# EAGLE library part TC9400/01/02 (library microchip2)
The TC9400/9401/9402 are low-cost Voltage-to-Frequency (V/F) converters, utilizing low-power CMOS technology. The converters accept a variable analog input signal and generate an output pulse train, whose frequency is linearly proportional to the input voltage. The devices can also be used as highly accurate Frequency-to-Voltage (F/V) converters, accepting virtually any input frequency waveform and providing a linearly proportional voltage output. A complete V/F or F/V system only requires the addition of two capacitors, three resistors, and reference voltage.
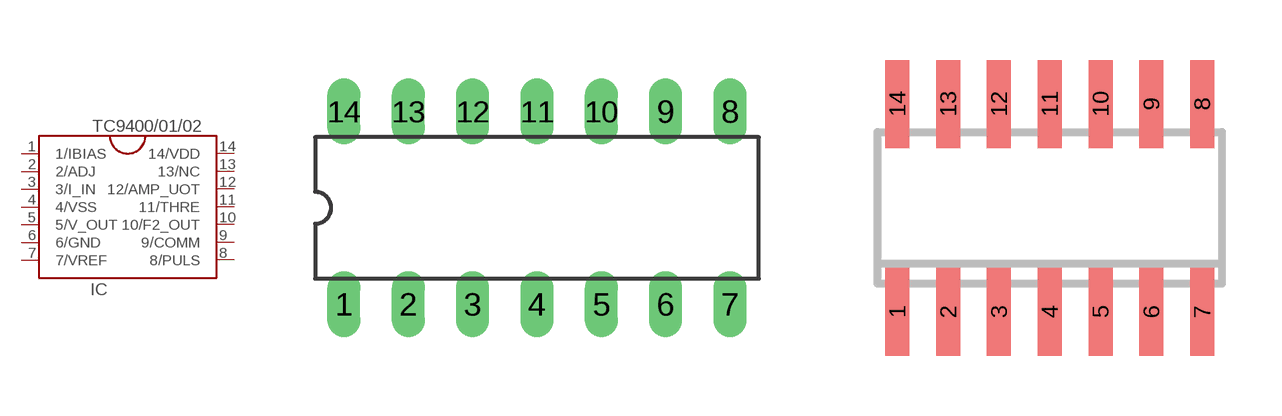
[diagram p188: symbol with the pads of DIL14; footprints DIL14, SOIC-14]

Designator prefix IC

## TC9400/01/02DIL14  [DIL14]
1  1/IBIAS
2  2/ADJ  in
3  3/I_IN  in
4  4/VSS  pwr
5  5/V_OUT  out
6  6/GND  pwr
7  7/VREF  in
8  8/PULS  out
9  9/COMM  out
10  10/F2_OUT  out
11  11/THRE  in
12  12/AMP_UOT  out
13  13/NC  nc
14  14/VDD  pwr

## TC9400/01/02SMD  [SOIC-14]
Pads as for DIL14

## Footprint DIL14 (pad centres in mm)
Dual In Line Package
drill 0.8 long: 1 -7.62,-3.81; 2 -5.08,-3.81; 3 -2.54,-3.81; 4 0,-3.81; 5 2.54,-3.81; 6 5.08,-3.81; 7 7.62,-3.81; 8 7.62,3.81; 9 5.08,3.81; 10 2.54,3.81; 11 0,3.81; 12 -2.54,3.81; 13 -5.08,3.81; 14 -7.62,3.81

## Footprint SOIC-14 (pad centres in mm)
14-Lead Plastic Small Outline (SL) – Narrow, 150 mil (SOIC)
smd 0.6 x 2.2: 1 -3.81,-2.6; 2 -2.54,-2.6; 3 -1.27,-2.6; 4 0,-2.6; 5 1.27,-2.6; 6 2.54,-2.6; 7 3.81,-2.6; 8 3.81,2.6; 9 2.54,2.6; 10 1.27,2.6; 11 0,2.6; 12 -1.27,2.6; 13 -2.54,2.6; 14 -3.81,2.6